# Altium schematic symbol library controlpannel.SchLib: 13 symbols
Pins are listed as number, name and electrical type; pins without a type are passive.

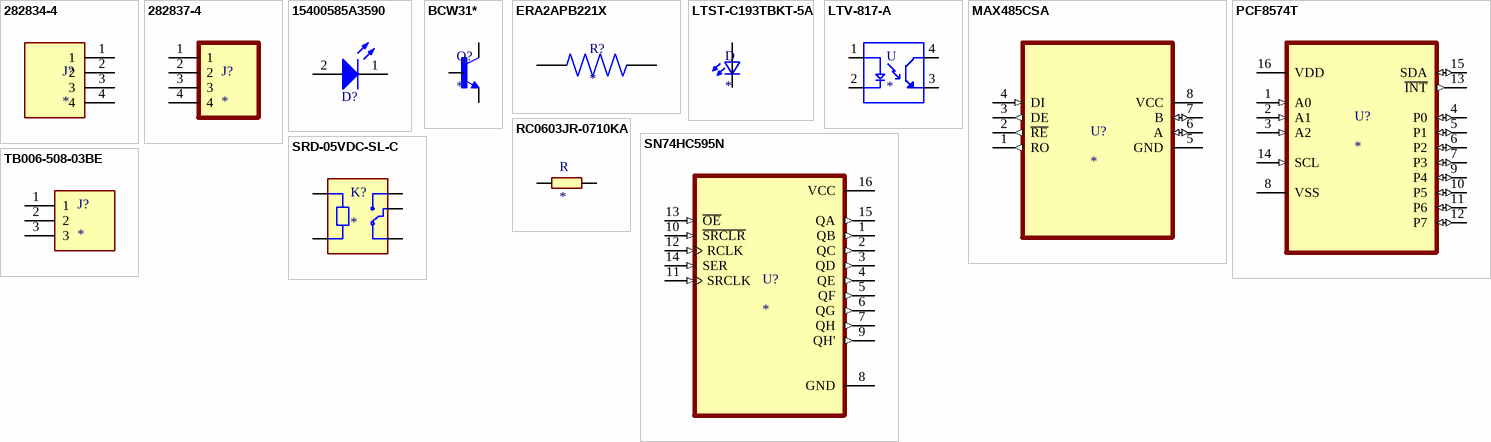
[diagram p0: symbols 282834-4 to TB006-508-03BE]

## 282834-4
designator J?
4 Position Wire to Board Terminal Block Horizontal with Board 0.100 (2.54mm) Through Hole; MP: 282834-4; MF: TE Connectivity; Check_prices: https://www.snapeda.com/parts/282834-4/TE+Connectivity+AMP+Connectors/view-part/?ref=eda; Price: None; Package: None; Value: *; Purchase-URL: https://pricing.snapeda.com/search/part/282834-4/?ref=eda; Availability: In Stock; EU_RoHS_Compliance: Compliant with Exemptions; SnapEDA_Link: https://www.snapeda.com/parts/282834-4/TE+Connectivity+AMP+Connectors/view-part/?ref=snap
footprint TE_282834-4
pins: 1, 2, 3, 4

## 282837-4
designator J?
4 Position Wire to Board Terminal Block Horizontal with Board 0.200 (5.08mm) Through Hole; MF: TE Connectivity; MP: 282837-4; Value: *; SnapEDA_Link: https://www.snapeda.com/parts/282837-4/TE+Connectivity+AMP+Connectors/view-part/?ref=snap; Purchase-URL: https://pricing.snapeda.com/search/part/282837-4/?ref=eda; EU_RoHS_Compliance: Compliant with Exemptions; Availability: In Stock; Price: None; Package: None; Check_prices: https://www.snapeda.com/parts/282837-4/TE+Connectivity+AMP+Connectors/view-part/?ref=eda
footprint TE_282837-4
pins: 1, 2, 3, 4

## 15400585A3590
designator D?, comment Infrared, 1.5V, 35°  (value not drawn)
WL-TIRW THT Infrared Round Waterclear, D5.8 x H8.6mm, 85mW/sr, Infrared, 1.5V, 35°; Manufacturer Part Number: 15400585A3590; Manufacturer: Wurth Elektronik; Centroid Wavelength: 845nm; Chip Technology: AlGaAs; Peak Wavelength: 850nm; Category: Infrared LEDs; Match Code: WL-TIRW; ComponentLink1Description: Website Link; ComponentLink1URL: https://www.we-online.com/redexpert/article/15400585A3590?ad; ComponentLink2Description: Datasheet Link; ComponentLink2URL: https://www.we-online.com/redexpert/spec/15400585A3590?ad; Mount: Through Hole; Operating Temperature Max: 85°C; Operating Temperature Min: -40°C; Packaging: Bulk; Height: 8.6mm; Diameter: 5.8mm; Emitting Color: Infrared; Forward Voltage: 1.5V; Radiant Intensity: 85mW/sr; Viewing Angle: 35°
footprint WL-TIRW_D5.8H8.6 (THT Infrared Round Waterclear, body diameter 5.8mm)
simulation model 5mm_15400585A3590
pins: 1 K, 2 A

## BCW31*
designator Q?
â€¢ This device is designed for general purpose amplifier applications at collector currents to 300 mA. â€¢ Sourced from process 10.; MF: Fairchild Semiconductor; MP: BCW31; Check_prices: https://www.snapeda.com/parts/BCW31/Fairchild+Semiconductor/view-part/?ref=eda; Purchase-URL: https://pricing.snapeda.com/search/part/BCW31/?ref=eda; Price: None; SnapEDA_Link: https://www.snapeda.com/parts/BCW31/Fairchild+Semiconductor/view-part/?ref=snap; Availability: In Stock; Package: SOT-23 ON; Value: *
footprint SOT23-BEC
pins: B, C, E

## ERA2APB221X
designator R?
MP: ERA2APB221X; Availability: Unavailable; Value: *; Price: None; Package: None
footprint RES_ERA2APB221X
footprint RES_ERA2APB221X
pins: 1, 2

## LTST-C193TBKT-5A
designator D
Blue 470nm LED Indication - Discrete 2.8V 0603 _1608 Metric_; MP: LTST-C193TBKT-5A; MF: Lite-On Inc.; Value: *; Digi-Key_Purchase_URL: https://www.digikey.com/product-detail/en/lite-on-inc/LTST-C193TBKT-5A/160-1827-1-ND/2355044?utm_source=snapeda&utm_medium=aggregator&utm_campaign=symbol; SnapEDA_Link: https://www.snapeda.com/parts/LTST-C193TBKT-5A/Lite-On%20Inc./view-part/350303/?ref=snap; Digi-Key_Part_Number: 160-1827-1-ND; Package: 0603 Lite-On
footprint 0603 - duplicate
pins: 1 K2, 2 A2

## LTV-817-A
designator U
Optoisolator Transistor Output 5000Vrms 1 Channel 4-DIP; MP: LTV-817-A; MF: Lite-On Inc.; Package: DIP-4 Lite-On Inc.; Digi-Key_Part_Number: 160-2037-5-ND; SnapEDA_Link: https://www.snapeda.com/parts/LTV-817-A/Lite-On%20Inc./view-part/3215369/?ref=snap; Value: *; Digi-Key_Purchase_URL: https://www.digikey.bg/product-detail/en/lite-on-inc/LTV-817-A/160-2037-5-ND/3199509?utm_source=snapeda&utm_medium=aggregator&utm_campaign=symbol
footprint DIP762W50P254L510H500Q4
pins: 1 A, 2 C, 3 ET, 4 CT

## MAX485CSA
designator U?
MP: MAX485CSA; Package: None; Value: *; Price: None; Availability: Unavailable
footprint SOIC127P600X175-8N
pins: 1 RO (out), 2 ~{RE} (out), 3 DE (out), 4 DI (in), 5 GND (power), 6 A (io), 7 B (io), 8 VCC (power)

## PCF8574T
designator U?
I/O Expander 8 IÂ²C 100 kHz 20-SSOP; MP: PCF8574T; MF: NXP Semiconductors; Price: None; Availability: In Stock; Package: SOIC-16 NXP Semiconductors; Purchase-URL: https://pricing.snapeda.com/search/part/PCF8574T/?ref=eda; SnapEDA_Link: https://www.snapeda.com/parts/PCF8574T/NXP+Semiconductors/view-part/?ref=snap; Value: *; Check_prices: https://www.snapeda.com/parts/PCF8574T/NXP+Semiconductors/view-part/?ref=eda
footprint SOIC127P1032X265-16N
pins: 1 A0 (in), 2 A1 (in), 3 A2 (in), 4 P0 (io), 5 P1 (io), 6 P2 (io), 7 P3 (io), 8 VSS, 9 P4 (io), 10 P5 (io), 11 P6 (io), 12 P7 (io), 13 ~{INT} (out), 14 SCL (in), 15 SDA (io), 16 VDD (power)

## RC0603JR-0710KA
designator R
RESISTOR, THICK FILM, 10KOHM, 100mW, 5%; MF: Yageo; MP: RC0603JR-0710KA; Value: *; Availability: Unavailable; Package: 0603 Yageo; Price: None; SnapEDA_Link: https://www.snapeda.com/parts/RC0603JR-0710KA/Yageo/view-part/947164/?ref=snap
footprint 0603
pins: 1, 2

## SN74HC595N
designator U?
MP: SN74HC595N; Package: None; Price: None; Availability: Unavailable; Value: *
footprint DIP794W45P254L1969H508Q16
pins: 1 QB (out), 2 QC (out), 3 QD (out), 4 QE (out), 5 QF (out), 6 QG (out), 7 QH (out), 8 GND (power), 9 QH' (out), 10 ~{SRCLR} (in), 11 SRCLK (in), 12 RCLK (in), 13 ~{OE} (in), 14 SER (in), 15 QA (out), 16 VCC (power)

## SRD-05VDC-SL-C
designator K?
5V Trigger Relay Module For Arduino And Raspberry Pi 5V Trigger Relay Module For Arduino And Raspberry Pi; MF: Songle Relay; MP: SRD-05VDC-SL-C; Check_prices: https://www.snapeda.com/parts/SRD-05VDC-SL-C/Songle+Relay/view-part/?ref=eda; Value: *; Availability: Not in stock; Price: None; Package: NON STANDARD-5 Songle Relay; SnapEDA_Link: https://www.snapeda.com/parts/SRD-05VDC-SL-C/Songle+Relay/view-part/?ref=snap
footprint RELAY_SRD-05VDC-SL-C
pins: A1, A2, COM, NC, NO

## TB006-508-03BE
designator J?
2~24 Poles, Screw Type, Horizontal, 5.08 Pitch, 26~14 (AWG), Terminal Block Connector; MF: CUI Devices; MP: TB006-508-03BE; Price: None; CUI_purchase_URL: https://www.cuidevices.com/product/interconnect/connectors/terminal-blocks/tb006-508-series?utm_source=snapeda.com&utm_medium=referral&utm_campaign=snapedaBOM; Purchase-URL: https://pricing.snapeda.com/search/part/TB006-508-03BE/?ref=eda; Value: *; Package: None; SnapEDA_Link: https://www.snapeda.com/parts/TB006-508-03BE/CUI+Devices/view-part/?ref=snap; Availability: In Stock; Check_prices: https://www.snapeda.com/parts/TB006-508-03BE/CUI+Devices/view-part/?ref=eda
footprint CUI_TB006-508-03BE
pins: 1, 2, 3